# Altium integrated library A_Semi (1).IntLib: 32 symbols
Pins are listed as number, name and electrical type; pins without a type are passive.

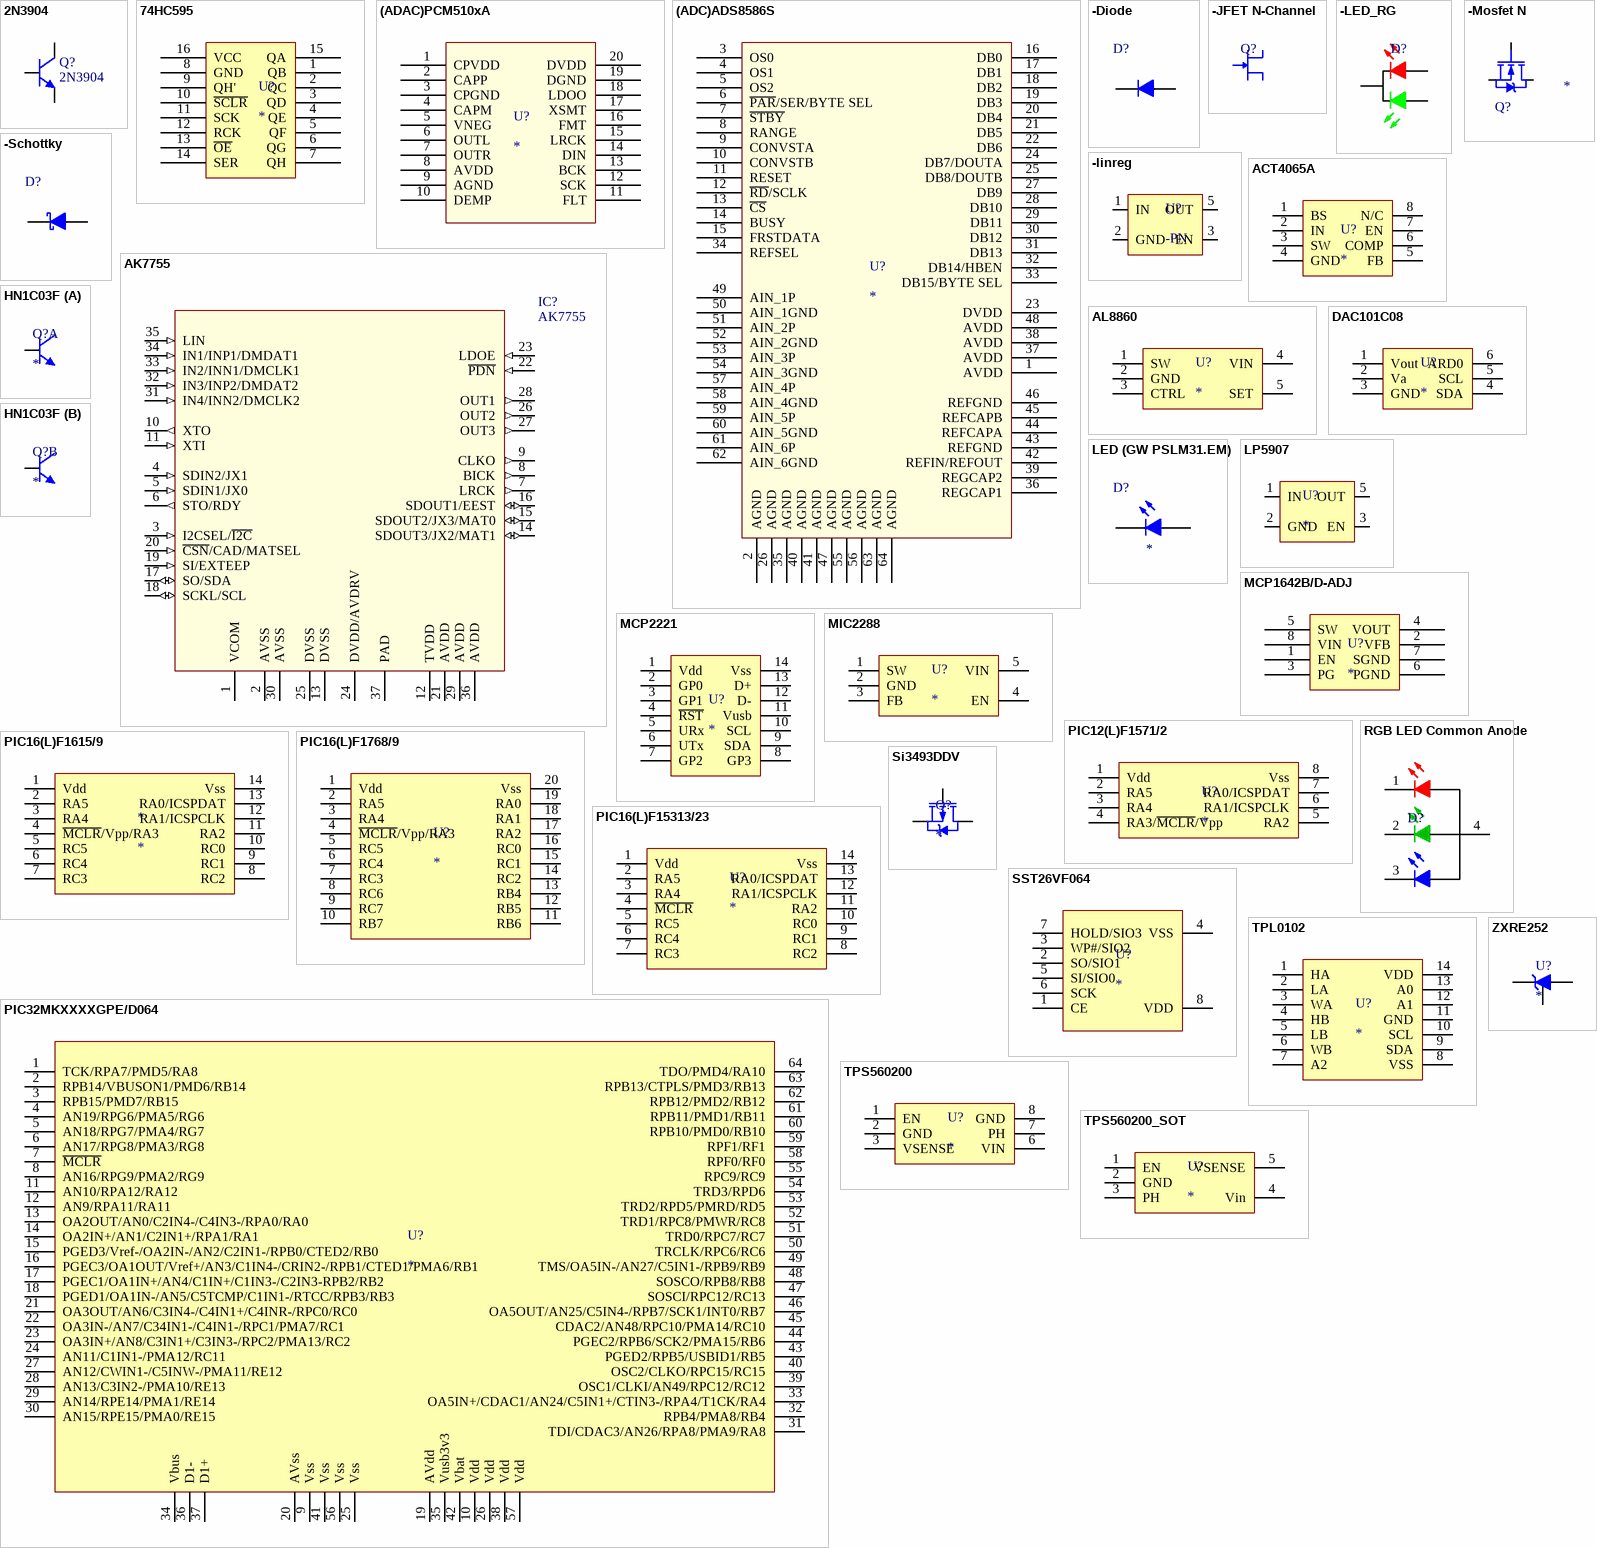
[diagram p0: symbols 2N3904 to ZXRE252]

## 2N3904
designator Q?
NPN General Purpose Amplifier; Published: 8-Jun-2000; LatestRevisionDate: 15-Jan-2003; LatestRevisionNote: PCB Footprint 'BCY-W3/D4.7' replaced; DatasheetVersion: 1997; PackageVersion: Sep-1998; PackageReference: TO-92A; Publisher: Altium Limited; PackageDescription: TO, Flat Index; 3 In-Line, Axial Leads; Body Dia. 4.5mm; Leads 0.51 x 0.48 mm (max); ComponentLink1Description: Manufacturer Link; ComponentLink1URL: http://www.fairchildsemi.com/; ComponentLink2Description: Datasheet; ComponentLink2URL: http://www.fairchildsemi.com/ds/2N%2F2N3904.pdf
footprint TO-92A (TO, Flat Index; 3 In-Line, Axial Leads; Body Dia. 4.5mm; Leads 0.51 x 0.48 mm (max))
simulation model 2N3904 (NPN)
signal-integrity model 2N3904
footprint SOT95P245X110-3N (SOT23, 3-Leads, Body 2.90x2.45mm, Pitch 0.95mm, IPC Medium Density)
pins: 1 B, 2 E, 3 C

## 74HC595
designator U?
footprint SOIC127P600X175-16N (SOIC, 16-Leads, Body 9.90x3.90mm, Pitch 1.27mm, IPC Medium Density)
pins: 1 QB, 2 QC, 3 QD, 4 QE, 5 QF, 6 QG, 7 QH, 8 GND, 9 QH', 10 ~{SCLR}, 11 SCK, 12 RCK, 13 ~{OE}, 14 SER, 15 QA, 16 VCC

## (ADAC)PCM510xA
designator U?
footprint 20TSSOP
pins: 1 CPVDD, 2 CAPP, 3 CPGND, 4 CAPM, 5 VNEG, 6 OUTL, 7 OUTR, 8 AVDD, 9 AGND, 10 DEMP, 11 FLT, 12 SCK, 13 BCK, 14 DIN, 15 LRCK, 16 FMT, 17 XSMT, 18 LDOO, 19 DGND, 20 DVDD

## (ADC)ADS8586S
designator U?
footprint 64QFP
pins: 1 AVDD, 2 AGND, 3 OS0, 4 OS1, 5 OS2, 6 ~{PAR}/SER/BYTE SEL, 7 ~{STBY}, 8 RANGE, 9 CONVSTA, 10 CONVSTB, 11 RESET, 12 ~{RD}/SCLK, 13 ~{CS}, 14 BUSY, 15 FRSTDATA, 16 DB0, 17 DB1, 18 DB2, 19 DB3, 20 DB4, 21 DB5, 22 DB6, 23 DVDD, 24 DB7/DOUTA, 25 DB8/DOUTB, 26 AGND, 27 DB9, 28 DB10, 29 DB11, 30 DB12, 31 DB13, 32 DB14/HBEN, 33 DB15/BYTE SEL, 34 REFSEL, 35 AGND, 36 REGCAP1, 37 AVDD, 38 AVDD, 39 REGCAP2, 40 AGND, 41 AGND, 42 REFIN/REFOUT, 43 REFGND, 44 REFCAPA, 45 REFCAPB, 46 REFGND, 47 AGND, 48 AVDD, 49 AIN_1P, 50 AIN_1GND, 51 AIN_2P, 52 AIN_2GND, 53 AIN_3P, 54 AIN_3GND, 55 AGND, 56 AGND, 57 AIN_4P, 58 AIN_4GND, 59 AIN_5P, 60 AIN_5GND, 61 AIN_6P, 62 AIN_6GND, 63 AGND, 64 AGND

## -Diode
designator D?
Generic Diode; Label: *
footprint SMini2-F5-B (Diode) (Panasonic Schottky Diode)
footprint SOD80 (MiniMELF)
pins: 1 K, 2 A

## -JFET N-Channel
designator Q?
footprint SOT95P245X110-3N (SOT23, 3-Leads, Body 2.90x2.45mm, Pitch 0.95mm, IPC Medium Density)
pins: 1 D, 2 S, 3 G

## -LED_RG
designator D?
R,G LED; Label: *
footprint LTL1BEKVJNN (Common Cathode R/G LED)
pins: 1 A, 2 K, 3 A

## -linreg
designator U?, comment -PN
PN: *
footprint SOT23-5 (SOT23, 5-Leads, Body 2.90x2.80mm, Pitch 0.95mm, IPC Medium Density)
pins: 1 IN, 2 GND, 3 EN, 5 OUT

## -Mosfet N
designator Q?
N-Channel Mosfet; Value: *
footprint SOT95P245X110-3N (SOT23, 3-Leads, Body 2.90x2.45mm, Pitch 0.95mm, IPC Medium Density)
pins: 1 G, 2 S, 3 D

## -Schottky
designator D?
Generic Diode; Label: *
footprint SMini2-F5-B (Diode) (Panasonic Schottky Diode)
pins: 1 K, 2 A

## ACT4065A
designator U?
footprint SOIC127P600X175-8N (SOIC, 8-Leads, Body 4.95x3.90mm, Pitch 1.27mm, IPC Medium Density)
pins: 1 BS, 2 IN, 3 SW, 4 GND, 5 FB, 6 COMP, 7 EN, 8 N/C

## AK7755
designator IC?
footprint QFN50P588X588X100_HS-37N (QFN, 36-Leads, Body 5.88x5.88mm, Pitch 0.50mm, Thermal Pad 4.10x4.10mm, IPC Medium Density)
pins: 1 VCOM, 2 AVSS (power), 3 I2CSEL/~{I2C} (in), 4 SDIN2/JX1 (in), 5 SDIN1/JX0 (in), 6 STO/RDY (out), 7 LRCK (out), 8 BICK (out), 9 CLKO (out), 10 XTO (out), 11 XTI (in), 12 TVDD (power), 13 DVSS (power), 14 SDOUT3/JX2/MAT1 (io), 15 SDOUT2/JX3/MAT0 (io), 16 SDOUT1/EEST (io), 17 SO/SDA (io), 18 SCKL/SCL (io), 19 SI/EXTEEP (in), 20 ~{CSN}/CAD/MATSEL (in), 21 AVDD (power), 22 ~{PDN} (in), 23 LDOE (in), 24 DVDD/AVDRV, 25 DVSS (power), 26 OUT2 (out), 27 OUT3 (out), 28 OUT1 (out), 29 AVDD (power), 30 AVSS (power), 31 IN4/INN2/DMCLK2 (in), 32 IN3/INP2/DMDAT2 (in), 33 IN2/INN1/DMCLK1 (in), 34 IN1/INP1/DMDAT1 (in), 35 LIN (in), 36 AVDD (power), 37 PAD (power)

## AL8860
designator U?
LED Driver 40V 1-1.5A
footprint SOT23-5 (SOT23, 5-Leads, Body 2.90x2.80mm, Pitch 0.95mm, IPC Medium Density)
pins: 1 SW, 2 GND, 3 CTRL, 4 VIN, 5 SET

## DAC101C08
designator U?
footprint SOT23-6 (SOT23, 6-Leads, Body 2.90x2.80mm, Pitch 0.95mm, IPC Medium Density)
pins: 1 Vout, 2 Va, 3 GND, 4 SDA, 5 SCL, 6 ARD0

## HN1C03F
designator Q?
Duel npn bjt muting transistor
footprint SOT-363-6 (SC70-60)
footprint SOT23-6 (SOT23, 6-Leads, Body 2.90x2.80mm, Pitch 0.95mm, IPC Medium Density)
part A pins: 1 E, 2 B, 6 C
part B pins: 3 C, 4 E, 5 B

## LED (GW PSLM31.EM)
designator D?
DURIS s 5 White OSRAM; Label: *
footprint LED 1212 GW PSLM32.EM (LED DURIS S5 COOL WHT 6500K SMD)
pins: 1 K, 2 A

## LP5907
designator U?
Value: *
footprint SOT23-5 (SOT23, 5-Leads, Body 2.90x2.80mm, Pitch 0.95mm, IPC Medium Density)
pins: 1 IN, 2 GND, 3 EN, 5 OUT

## MCP1642B/D-ADJ
designator U?
footprint MSOP8
pins: 1 EN, 2 VFB, 3 PG, 4 VOUT, 5 SW, 6 PGND, 7 SGND, 8 VIN

## MCP2221
designator U?
footprint SOIC14
pins: 1 Vdd, 2 GP0, 3 GP1, 4 ~{RST}, 5 URx, 6 UTx, 7 GP2, 8 GP3, 9 SDA, 10 SCL, 11 Vusb, 12 D-, 13 D+, 14 Vss

## MIC2288
designator U?
footprint SOT23-5 (SOT23, 5-Leads, Body 2.90x2.80mm, Pitch 0.95mm, IPC Medium Density)
pins: 1 SW, 2 GND, 3 FB, 4 EN, 5 VIN

## PIC12(L)F1571/2
designator U?
footprint SOIC127P600X175-8N (SOIC, 8-Leads, Body 4.95x3.90mm, Pitch 1.27mm, IPC Medium Density)
pins: 1 Vdd, 2 RA5, 3 RA4, 4 RA3/~{MCLR}/Vpp, 5 RA2, 6 RA1/ICSPCLK, 7 RA0/ICSPDAT, 8 Vss

## PIC16(L)F1615/9
designator *
pins: 1 Vdd, 2 RA5, 3 RA4, 4 ~{MCLR}/Vpp/RA3, 5 RC5, 6 RC4, 7 RC3, 8 RC2, 9 RC1, 10 RC0, 11 RA2, 12 RA1/ICSPCLK, 13 RA0/ICSPDAT, 14 Vss

## PIC16(L)F1768/9
designator U?
footprint SOIC20
pins: 1 Vdd, 2 RA5, 3 RA4, 4 ~{MCLR}/Vpp/RA3, 5 RC5, 6 RC4, 7 RC3, 8 RC6, 9 RC7, 10 RB7, 11 RB6, 12 RB5, 13 RB4, 14 RC2, 15 RC1, 16 RC0, 17 RA2, 18 RA1, 19 RA0, 20 Vss

## PIC16(L)F15313/23
designator U?
footprint SOIC14
pins: 1 Vdd, 2 RA5, 3 RA4, 4 ~{MCLR}, 5 RC5, 6 RC4, 7 RC3, 8 RC2, 9 RC1, 10 RC0, 11 RA2, 12 RA1/ICSPCLK, 13 RA0/ICSPDAT, 14 Vss

## PIC32MKXXXXGPE/D064
designator U?
footprint TSQFP50P1200X1200X120-64M (TSQFP, 64-Leads, Body 10.00x10.00mm, Pitch 0.50mm, IPC Low Density)
pins: 1 TCK/RPA7/PMD5/RA8, 2 RPB14/VBUSON1/PMD6/RB14, 3 RPB15/PMD7/RB15, 4 AN19/RPG6/PMA5/RG6, 5 AN18/RPG7/PMA4/RG7, 6 AN17/RPG8/PMA3/RG8, 7 ~{MCLR}, 8 AN16/RPG9/PMA2/RG9, 9 Vss, 10 Vdd, 11 AN10/RPA12/RA12, 12 AN9/RPA11/RA11, 13 OA2OUT/AN0/C2IN4-/C4IN3-/RPA0/RA0, 14 OA2IN+/AN1/C2IN1+/RPA1/RA1, 15 PGED3/Vref-/OA2IN-/AN2/C2IN1-/RPB0/CTED2/RB0, 16 PGEC3/OA1OUT/Vref+/AN3/C1IN4-/CRIN2-/RPB1/CTED1/PMA6/RB1, 17 PGEC1/OA1IN+/AN4/C1IN+/C1IN3-/C2IN3-RPB2/RB2, 18 PGED1/OA1IN-/AN5/C5TCMP/C1IN1-/RTCC/RPB3/RB3, 19 AVdd, 20 AVss, 21 OA3OUT/AN6/C3IN4-/C4IN1+/C4INR-/RPC0/RC0, 22 OA3IN-/AN7/C34IN1-/C4IN1-/RPC1/PMA7/RC1, 23 OA3IN+/AN8/C3IN1+/C3IN3-/RPC2/PMA13/RC2, 24 AN11/C1IN1-/PMA12/RC11, 25 Vss, 26 Vdd, 27 AN12/CWIN1-/C5INW-/PMA11/RE12, 28 AN13/C3IN2-/PMA10/RE13, 29 AN14/RPE14/PMA1/RE14, 30 AN15/RPE15/PMA0/RE15, 31 TDI/CDAC3/AN26/RPA8/PMA9/RA8, 32 RPB4/PMA8/RB4, 33 OA5IN+/CDAC1/AN24/C5IN1+/CTIN3-/RPA4/T1CK/RA4, 34 Vbus, 35 Vusb3v3, 36 D1-, 37 D1+, 38 Vdd, 39 OSC1/CLKI/AN49/RPC12/RC12, 40 OSC2/CLKO/RPC15/RC15, 41 Vss, 42 Vbat, 43 PGED2/RPB5/USBID1/RB5, 44 PGEC2/RPB6/SCK2/PMA15/RB6, 45 CDAC2/AN48/RPC10/PMA14/RC10, 46 OA5OUT/AN25/C5IN4-/RPB7/SCK1/INT0/RB7, 47 SOSCI/RPC12/RC13, 48 SOSCO/RPB8/RB8, 49 TMS/OA5IN-/AN27/C5IN1-/RPB9/RB9, 50 TRCLK/RPC6/RC6, 51 TRD0/RPC7/RC7, 52 TRD1/RPC8/PMWR/RC8, 53 TRD2/RPD5/PMRD/RD5, 54 TRD3/RPD6, 55 RPC9/RC9, 56 Vss, 57 Vdd, 58 RPF0/RF0, 59 RPF1/RF1, 60 RPB10/PMD0/RB10, 61 RPB11/PMD1/RB11, 62 RPB12/PMD2/RB12, 63 RPB13/CTPLS/PMD3/RB13, 64 TDO/PMD4/RA10

## RGB LED Common Anode
designator D?  (value not drawn)
footprint LED LTST-C19HE1WT
pins: 1 K, 2 K, 3 K, 4 A

## Si3493DDV
designator Q?
P-Channel MOS
footprint SOT23-6 (SOT23, 6-Leads, Body 2.90x2.80mm, Pitch 0.95mm, IPC Medium Density)
pins: 1 D, 2 D, 3 G, 4 S, 5 D, 6 D

## SST26VF064
designator U?
footprint SOIC8_wide (SOIC, 8-Leads, Body 5.26x5.25mm, Pitch 1.27mm, IPC Medium Density)
pins: 1 CE, 2 SO/SIO1, 3 WP#/SIO2, 4 VSS, 5 SI/SIO0, 6 SCK, 7 HOLD/SIO3, 8 VDD

## TPL0102
designator U?
Digital Potentiometers
footprint SOP65P640X120-14N (TSOP, 14-Leads, Body 5.00x4.40mm, Pitch 0.65mm, IPC Medium Density)
pins: 1 HA, 2 LA, 3 WA, 4 HB, 5 LB, 6 WB, 7 A2, 8 VSS, 9 SDA, 10 SCL, 11 GND, 12 A1, 13 A0, 14 VDD

## TPS560200
designator U?
footprint DGK VSSOP8
pins: 1 EN, 2 GND, 3 VSENSE, 6 VIN, 7 PH, 8 GND

## TPS560200_SOT
designator U?
footprint SOT23-5 (SOT23, 5-Leads, Body 2.90x2.80mm, Pitch 0.95mm, IPC Medium Density)
pins: 1 EN, 2 GND, 3 PH, 4 Vin, 5 VSENSE

## ZXRE252
designator U?
Diodes Inc precision shunt
footprint SOT95P245X110-3N (SOT23, 3-Leads, Body 2.90x2.45mm, Pitch 0.95mm, IPC Medium Density)
pins: 1 Ref, 2 K, 3 A